# Altium footprint library PCB - LEADLESS - QFN - TI VQFN-20 RNJ0020A.PcbLib: 1 footprints
Each footprint in its own frame and in the unit in brackets; x right, y up, seen from the top. Pads: shape width x height; smd on the part's side, far side on the other; paste and mask are expansions set on the pad; w line width, h text height; cw(c..) or ccw(c..) is an arc to the next point about the centre after c.
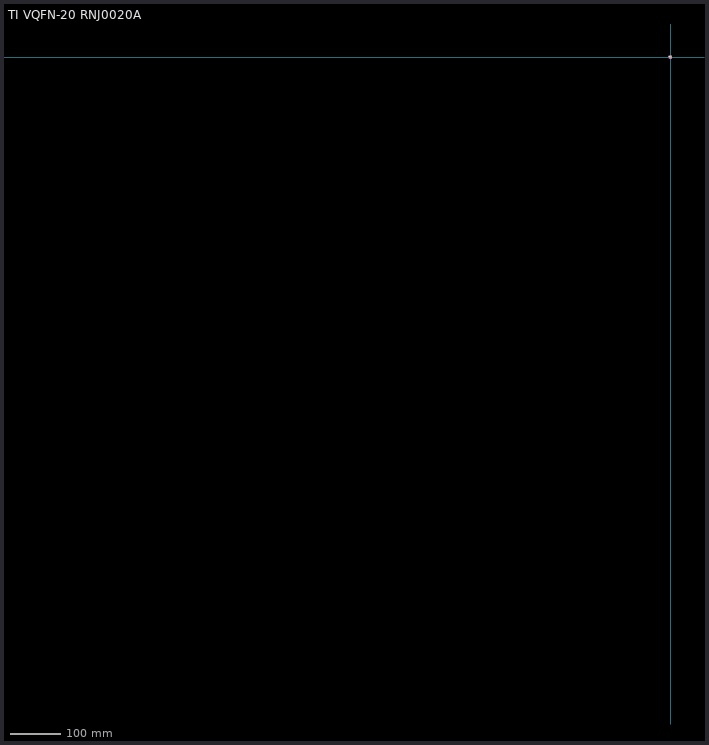
[diagram p0: the footprint, top view; thin cyan lines are the x and y axes]

## TI VQFN-20 RNJ0020A [mm] "VQFN, 20-Leads, Body 3.5x4.00mm, Pitch 0.50mm"
height 1
pads (21):
  oval 1.7x0.325 smd: 1(-1.125,1.11) 13(1.1,1.11)
  oval 3.9x0.5 smd: 2(0,0.385)
  oval 1.75x0.4 smd: 3(-1.075,-0.416)
  oval 0.8x0.25 smd: 4(-1.55,-1.09)
  oval 0.45x0.65 smd: 5(-1.35,-1.9) 10(1.35,-1.9) 14(1.35,1.9) 19(-1.35,1.9)
  oval 0.25x0.6 smd: 6(-0.75,-1.9) 7(-0.25,-1.9) 8(0.25,-1.9) 9(0.75,-1.9) 15(0.75,1.9) 16(0.25,1.9) 17(-0.25,1.9) 18(-0.75,1.9)
  oval 0.4x0.35 smd: 11(-1270,-1271.9) 11(1.75,-1.02)
  oval 1.7x0.395 smd: 12(1.1,-0.395)
  oval 0.7x0.45 smd: 20(0.405,-1.071)
Top Overlay:
  circle w0.2: c-2.35,1.125 r0.1
  lines w0.2: -1.9,-1.95 -1.9,-1.55 ; -1.9,1.55 -1.9,1.95 ; 1.9,-1.95 1.9,-1.55 ; 1.9,1.55 1.9,1.95
Mechanical 13:
  circle w0.1: c-1.125,1.11 r0.408
  lines w0.1: -1.75,-2 -1.75,2 1.75,2 1.75,-2 -1.75,-2
Mechanical 15:
  lines w0.05: -2.175,-2.4 -2.175,2.4 2.15,2.4 2.15,-2.4 -2.175,-2.4
  lines w0.1: -1,0 0,0 ; 0,-1 0,0 ; 0,1 0,0 ; 1,0 0,0
3D body "TI - VQFN-20 - RNJ0020A v2.step": height 1, standoff 0, extent -1.75,-2 1.75,2